# EAGLE library part BQ27220YZFR (library BQ27220)
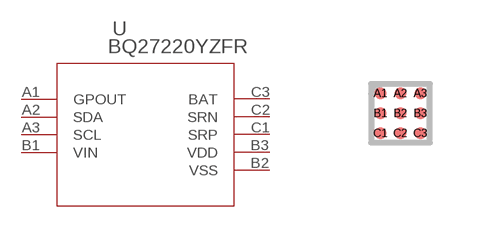
[diagram p0: symbol with the pads of YZF9; footprint YZF9]

Designator prefix U

## BQ27220YZFR (MANUFACTURER_PART_NUMBER: BQ27220YZFR; VENDOR: Texas Instruments)  [YZF9]
A1  GPOUT  out
A2  SDA
A3  SCL
B1  VIN  in
B2  VSS  pwr
B3  VDD  pwr
C1  SRP  in
C2  SRN  in
C3  BAT  in

## Footprint YZF9 (pad centres in mm)
smd 0.305 x 0.305: A1 -0.5,0.5; A2 0,0.5; A3 0.5,0.5; B1 -0.5,0; B2 0,0; B3 0.5,0; C1 -0.5,-0.5; C2 0,-0.5; C3 0.5,-0.5